# EAGLE library part UART-FT234XD (library ds_ic_peripherals)
USB TO BASIC UART IC
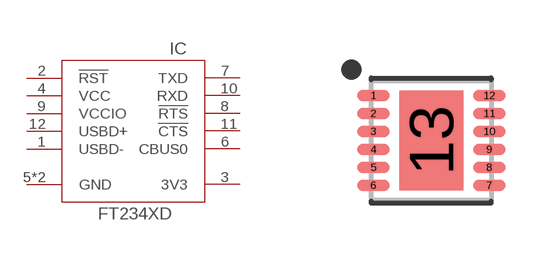
[diagram p38: symbol with the pads of SON45P300X300X75-13T160X250N; footprint SON45P300X300X75-13T160X250N]

Designator prefix IC

## UART-FT234XD-T  [SON45P300X300X75-13T160X250N]
1  USBD-
2  !RST
3  3V3
4  VCC
5  GND
6  CBUS0
7  TXD
8  !RTS
9  VCCIO
10  RXD
11  !CTS
12  USBD+
13  GND

## Footprint SON45P300X300X75-13T160X250N (pad centres in mm)
12-SON (DFN), 0.45 mm pitch, 3.00 X 3.00 X 0.75 mm body, 2.50 X 1.60 mm thermal pad 12-pin SON (DFN) package with 0.45 mm pitch with body size 3.00 X 3.00 X 0.75 mm and thermal pad size 2.50 X 1.60 mm
smd 0.812 x 0.282: 1 -1.45,1.125; 2 -1.45,0.675; 3 -1.45,0.225; 4 -1.45,-0.225; 5 -1.45,-0.675; 6 -1.45,-1.125; 7 1.45,-1.125; 8 1.45,-0.675; 9 1.45,-0.225; 10 1.45,0.225; 11 1.45,0.675; 12 1.45,1.125
smd 1.6 x 2.5: 13 0,0